# EAGLE library part PCA9534 (library nxp)
I/O EXPANDER 8-bit I2C-bus and SMBus I/O port with interrupt
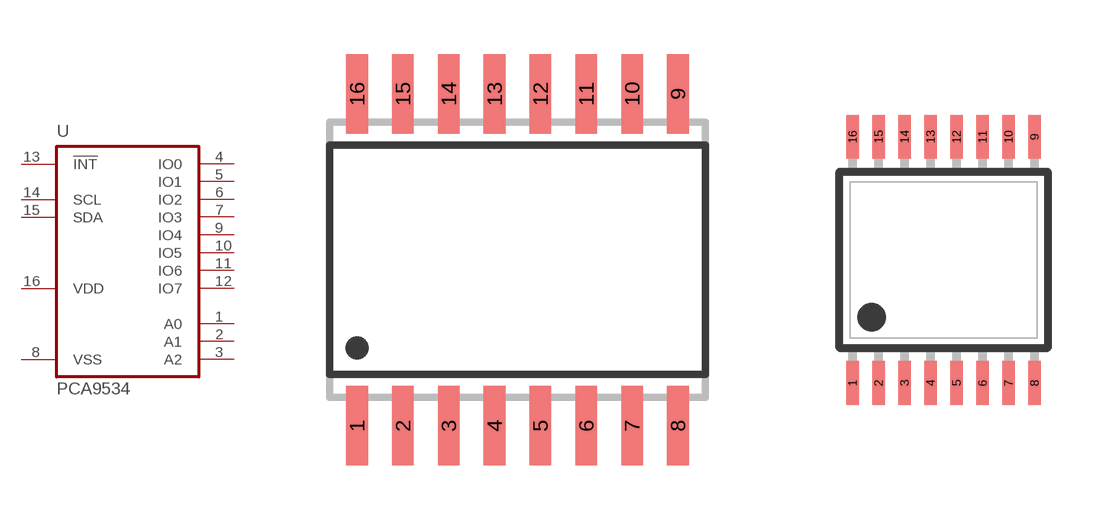
[diagram p7: symbol with the pads of SO16W; footprints SO16W, TSSOP16]

Designator prefix U

## PCA9534D  [SO16W]
1  A0  in
2  A1  in
3  A2  in
4  IO0
5  IO1
6  IO2
7  IO3
8  VSS  pwr
9  IO4
10  IO5
11  IO6
12  IO7
13  !INT  out
14  SCL  in
15  SDA
16  VDD  pwr

## PCA9534PW  [TSSOP16]
Pads as for SO16W

## PCA9534BS3  [HVQFN16-S3]
1  A2  in
2  IO0
3  IO1
4  IO2
5  IO3
6  VSS  pwr
7  IO4
8  IO5
9  IO6
10  IO7
11  !INT  out
12  SCL  in
13  SDA
14  VDD  pwr
15  A0  in
16  A1  in

## PCA9534BS  [HVQFN16-S]
Pads as for HVQFN16-S3

## Footprint SO16W (pad centres in mm)
SMALL OUTLINE INTEGRATED CIRCUIT wide body 7.5 mm/JEDEC MS-013AA
smd 0.6 x 2.2: 1 -4.445,-4.6; 2 -3.175,-4.6; 3 -1.905,-4.6; 4 -0.635,-4.6; 5 0.635,-4.6; 6 1.905,-4.6; 7 3.175,-4.6; 8 4.445,-4.6; 9 4.445,4.6; 10 3.175,4.6; 11 1.905,4.6; 12 0.635,4.6; 13 -0.635,4.6; 14 -1.905,4.6; 15 -3.175,4.6; 16 -4.445,4.6

## Footprint TSSOP16 (pad centres in mm)
Thin Shrink Small Outline Plastic 16
smd 0.31 x 1.1: 1 -2.275,-3.08; 2 -1.625,-3.08; 3 -0.975,-3.08; 4 -0.325,-3.08; 5 0.325,-3.08; 6 0.975,-3.08; 7 1.625,-3.08; 8 2.275,-3.08; 9 2.275,3.08; 10 1.625,3.08; 11 0.975,3.08; 12 0.325,3.08; 13 -0.325,3.08; 14 -0.975,3.08; 15 -1.625,3.08; 16 -2.275,3.08

## Footprint HVQFN16-S3 (pad centres in mm)
HVQFN16 - (SOT758-1) body 3 x 3 x 0.85 mm, JEDEC MO-220
smd 0.7 x 0.3: 1 -1.5,0.75; 2 -1.5,0.25; 3 -1.5,-0.25; 4 -1.5,-0.75; 9 1.5,-0.75; 10 1.5,-0.25; 11 1.5,0.25; 12 1.5,0.75
smd 0.3 x 0.7: 5 -0.75,-1.5; 6 -0.25,-1.5; 7 0.25,-1.5; 8 0.75,-1.5; 13 0.75,1.5; 14 0.25,1.5; 15 -0.25,1.5; 16 -0.75,1.5

## Footprint HVQFN16-S (pad centres in mm)
HVQFN16 - (SOT629-1) body 4 x 4 x 0.85 mm, JEDEC MO-220
smd 0.75 x 0.3: 1 -1.95,0.975; 2 -1.95,0.325; 3 -1.95,-0.325; 4 -1.95,-0.975; 9 1.95,-0.975; 10 1.95,-0.325; 11 1.95,0.325; 12 1.95,0.975
smd 0.3 x 0.75: 5 -0.975,-1.95; 6 -0.325,-1.95; 7 0.325,-1.95; 8 0.975,-1.95; 13 0.975,1.95; 14 0.325,1.95; 15 -0.325,1.95; 16 -0.975,1.95